# EAGLE library part MAX1946 (library zz-m-pad-2.1)
Maxim's MAX1946 Single USB Switch with Autoreset and Fault Blanking in Tiny QFN Description: The MAX1946 single current-limited switch with autoreset supplies a guaranteed 500mA load in accordance with USB specifications. The MAX1946 operates from a 2.7V to 5.5V input supply and consumes only 40µA of quiescent current when operating and only 3µA in shutdown. Selectable active-high/active-low control logic and shutdown control provide additional flexibility. An autoreset feature latches the switch off in the event of a short circuit, saving system power. The switch reactivates upon removal of the shorted condition. The MAX1946 provides several safety features to protect the USB port. Built-in thermal-overload protection turns off the switch when the die temperature exceeds +160°C. Accurate internal current-limiting circuitry protects the input supply against both overload and shortcircuit conditions. An open-drain fault signal, (FAULT), notifies the microprocessor (µP) when a thermal overload, current-limit, undervoltage lockout (UVLO), or short-circuit fault occurs. A 20ms fault-blanking feature enables the circuit to ignore momentary faults, such as those caused when hot-swapping a capacitive load, preventing false alarms to the host system. The faultblanking feature prevents fault signals from being issued when the device powers up the load. The MAX1946 is available in a space-saving 8-pin thin QFN package and operates over the extended (-40°C to +85°C) temperature range. Features: Single USB Switch in 3mm x 3mm Package Autoreset Feature Saves System Power Guaranteed 500mA Load Current Built-In 20ms Fault-Blanking Circuitry Active-High or Active-Low Control Logic Fully Compliant to USB Specifications 2.7V to 5.5V Input Voltage Range Fault-Indicator Output Thermal-Overload Protection UL Certification Pending Applications: USB Ports and USB Hubs Notebook and Desktop Computers PDAs and Palmtop Computers Digital Cameras Docking Stations Please send any comments to: messi@users.sourceforge.net
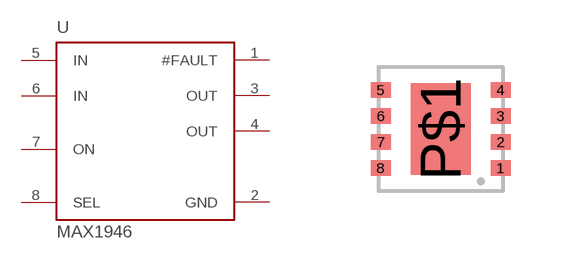
[diagram p121: symbol with the pads of QFN-8; footprint QFN-8]

Designator prefix U

## MAX1946-ETA  [QFN-8]
1  #FAULT  out
2  GND  pwr
3  OUT  out
4  OUT  out
5  IN  in
6  IN  in
7  ON  in
8  SEL  in

## Footprint QFN-8 (pad centres in mm)
smd 0.5 x 0.38: 1 1.5,-0.975; 2 1.5,-0.325; 3 1.5,0.325; 4 1.5,0.975; 5 -1.5,0.975; 6 -1.5,0.325; 7 -1.5,-0.325; 8 -1.5,-0.975
smd 1.5 x 2.3: P$1 0,0